# Altium schematic symbol library GPS-Module-Schlib.SchLib: 38 symbols (part 1 of 2)
Pins are listed as number, name and electrical type; pins without a type are passive.

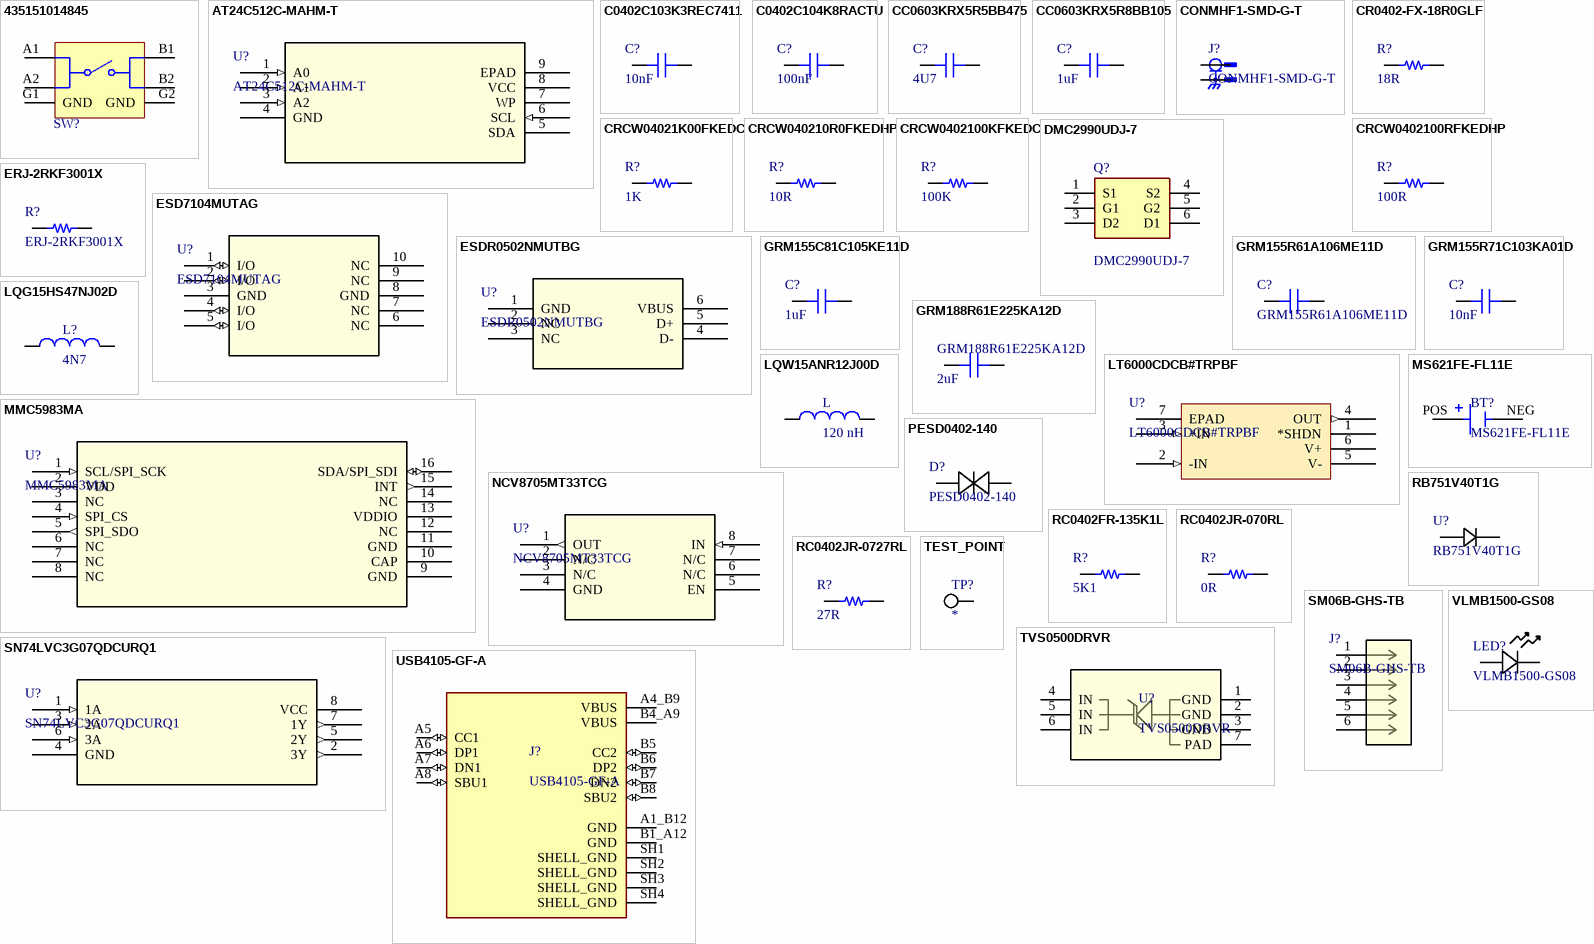
[diagram p0: symbols 435151014845 to VLMB1500-GS08]

## 435151014845
designator SW?  (value not drawn)
WS-TASV SMT Tact Switch with ground terminal, L3 x W2.6 x H1.4mm, 450g, SPST-NO, 12V, 50mA; Manufacturer: Wurth Elektronik; Washable: No; MPN: 435151014845; Category: Tact Switches; Match Code: WS-TASV; ComponentLink1Description: Website Link; ComponentLink1URL: https://www.we-online.com/redexpert/article/435151014845?ad; ComponentLink2Description: Datasheet Link; ComponentLink2URL: https://www.we-online.com/redexpert/spec/435151014845?ad; Mount: Surface Mount; Operating Temperature Max: 85°C; Operating Temperature Min: -40°C; Packaging: Tape and Reel; Length: 3mm; Width: 2.6mm; Height: 1.4mm; Circuit: SPST-NO; Contact Material: Stainless Steel; Contact Plating: Silver; Operation Force: 450g; Rated Current: 50mA; Rated Voltage (DC): 12V; Terminal Material: Copper Alloy; Terminal Plating: Silver
footprint 435151014845 (SMD Tact Switch, body 3x2.6mm)
pins: A1, A2, B1, B2, G1 GND, G2 GND

## AT24C512C-MAHM-T
designator U?
IC EEPROM 512KBIT I2C 8UDFN; Manufacturer_Name: Microchip; Copyright: Copyright (C) 2025 Ultra Librarian. All rights reserved.; MPN: AT24C512C-MAHM-T; RefDes: RefDes; Type: Type
footprint 8MA2_ATM_EEPROM
pins: 1 A0 (in), 2 A1 (in), 3 A2 (in), 4 GND (power), 5 SDA, 6 SCL (in), 7 WP, 8 VCC (power), 9 EPAD

## C0402C103K3REC7411
designator C?, comment 10nF
Multilayer Ceramic Capacitors MLCC - SMD/SMT 25V 0.01uF X7R 0402 10%; Manufacturer: KEMET; MPN: C0402C103K3REC7411; Supplier: DigiKey; Supplier Part Number: 399-C0402C103K3REC7411CT-ND; RoHS: Compliant; Category: Ceramic Capacitors; Stock: 41610; Pricing: 1=0.1, 10=0.056, 50=0.039, 100=0.0336, 500=0.02468, 1000=0.02195, 2500=0.01906, 5000=0.01733 (USD); Value: 10nF; China RoHS: Compliant; Dielectric Material: Ceramic; Height: 500µm; Length: 1mm; Lifecycle Status: Production; Max Operating Temperature: 125°C; Min Operating Temperature: -55°C; Mounting Technology: Surface Mount; Number of Terminals: 2; REACH SVHC: Yes; Voltage Rating (DC): 25V; Width: 500µm; ComponentLink1URL: https://datasheet.octopart.com:443/C0402C103K3REC7411-KEMET-datasheet-178568699.pdf?src-supplier=IHS; ComponentLink1Description: https://datasheet.octopart.com:443/C0402C103K3REC7411-KEMET-datasheet-178568699.pdf?src-supplier=IHS
footprint CAP 0402_1005 (Chip Capacitor, 2-Leads, Body 1.02x0.51mm, IPC Medium Density)
pins: 1, 2

## C0402C104K8RACTU
designator C?, comment 100nF
Capacitor, Multilayer, Ceramic, 10V, 10%, X7R, 15% Tc, 0.1Uf, Surface Mount, 0402; Manufacturer: KEMET; MPN: C0402C104K8RACTU; Dissipation Factor: 5%; Supplier: DigiKey; Supplier Part Number: 399-C0402C104K8RACTUCT-ND; RoHS: Compliant; Category: Ceramic Capacitors; Stock: 3340670; Pricing: 1=0.1, 10=0.029, 50=0.0198, 100=0.0168, 500=0.01192, 1000=0.01043, 2500=0.00886, 5000=0.00792 (USD); Value: 100nF; Case/Package: 0402; Case Code (Imperial): 0402; China RoHS: Compliant; Depth: 500µm; Dielectric: X7R; Dielectric Material: Ceramic; Height: 500µm; Lead Free: Lead Free; Lead Pitch: 300µm; Length: 1mm; Lifecycle Status: Production; Material: Ceramic; Max Operating Temperature: 125°C; Min Operating Temperature: -55°C; Mounting Technology: Surface Mount; Pins: 2; Number of Terminals: 2; Packaging: Cut Tape; Radiation Hardening: No; REACH SVHC: Yes; Schedule B: 8532240020, 8532240020|8532240020|8532240020|8532240020|8532240020; Termination: SMD/SMT; Thickness: 558.8µm; Tolerance: 10%; Voltage: 10V; Voltage Rating: 10V; Voltage Rating (DC): 10V; Width: 500µm; ComponentLink1URL: https://datasheet.octopart.com:443/C0402C104K8RACTU-KEMET-datasheet-178445679.pdf?src-supplier=IHS; ComponentLink1Description: https://datasheet.octopart.com:443/C0402C104K8RACTU-KEMET-datasheet-178445679.pdf?src-supplier=IHS; ComponentLink2URL: https://datasheet.octopart.com:443/C0402C104K8RACTU-KEMET-datasheet-137357759.pdf?src-supplier=Farnell; ComponentLink2Description: https://datasheet.octopart.com:443/C0402C104K8RACTU-KEMET-datasheet-137357759.pdf?src-supplier=Farnell; ComponentLink3URL: https://datasheet.octopart.com:443/C0402C104K8RACTU-KEMET-datasheet-149521634.pdf?src-supplier=Farnell; ComponentLink3Description: https://datasheet.octopart.com:443/C0402C104K8RACTU-KEMET-datasheet-149521634.pdf?src-supplier=Farnell; ComponentLink4URL: https://datasheet.octopart.com:443/C0402C104K8RACTU-Kemet-datasheet-12608295.pdf?src-supplier=Farnell; ComponentLink4Description: https://datasheet.octopart.com:443/C0402C104K8RACTU-Kemet-datasheet-12608295.pdf?src-supplier=Farnell; ComponentLink5URL: https://datasheet.octopart.com:443/C0402C104K8RACTU-Kemet-datasheet-11992184.pdf?src-supplier=Farnell; ComponentLink5Description: https://datasheet.octopart.com:443/C0402C104K8RACTU-Kemet-datasheet-11992184.pdf?src-supplier=Farnell; ComponentLink6URL: https://datasheet.octopart.com:443/C0402C104K8RACTU-Kemet-datasheet-10942409.pdf?src-supplier=Farnell; ComponentLink6Description: https://datasheet.octopart.com:443/C0402C104K8RACTU-Kemet-datasheet-10942409.pdf?src-supplier=Farnell; ComponentLink7URL: https://datasheet.octopart.com:443/C0402C104K8RACTU-Kemet-datasheet-10404442.pdf?src-supplier=Farnell; ComponentLink7Description: https://datasheet.octopart.com:443/C0402C104K8RACTU-Kemet-datasheet-10404442.pdf?src-supplier=Farnell; ComponentLink8URL: https://datasheet.octopart.com:443/C0402C104K8RACTU-KEMET-datasheet-101575473.pdf?src-supplier=Farnell; ComponentLink8Description: https://datasheet.octopart.com:443/C0402C104K8RACTU-KEMET-datasheet-101575473.pdf?src-supplier=Farnell; ComponentLink9URL: https://datasheet.octopart.com:443/C0402C104K8RACTU-Kemet-datasheet-41232427.pdf?src-supplier=Farnell; ComponentLink9Description: https://datasheet.octopart.com:443/C0402C104K8RACTU-Kemet-datasheet-41232427.pdf?src-supplier=Farnell; ComponentLink10URL: https://datasheet.octopart.com:443/C0402C104K8RACTU-Kemet-datasheet-32036385.pdf?src-supplier=Electro+Sonic; ComponentLink10Description: https://datasheet.octopart.com:443/C0402C104K8RACTU-Kemet-datasheet-32036385.pdf?src-supplier=Electro+Sonic; ComponentLink11URL: https://datasheet.octopart.com:443/C0402C104K8RACTU-KEMET-datasheet-157246124.pdf?src-supplier=Electro+Sonic; ComponentLink11Description: https://datasheet.octopart.com:443/C0402C104K8RACTU-KEMET-datasheet-157246124.pdf?src-supplier=Electro+Sonic; ComponentLink12URL: https://datasheet.octopart.com:443/C0402C104K8RACTU-Kemet-datasheet-27203261.pdf?src-supplier=Newark; ComponentLink12Description: https://datasheet.octopart.com:443/C0402C104K8RACTU-Kemet-datasheet-27203261.pdf?src-supplier=Newark; ComponentLink13URL: https://datasheet.octopart.com:443/C0402C104K8RACTU-KEMET-datasheet-176289274.pdf?src-supplier=Newark; ComponentLink13Description: https://datasheet.octopart.com:443/C0402C104K8RACTU-KEMET-datasheet-176289274.pdf?src-supplier=Newark; ComponentLink14URL: https://datasheet.octopart.com:443/C0402C104K8RACTU-Kemet-datasheet-5313890.pdf?src-supplier=element14; ComponentLink14Description: https://datasheet.octopart.com:443/C0402C104K8RACTU-Kemet-datasheet-5313890.pdf?src-supplier=element14; ComponentLink15URL: https://datasheet.octopart.com:443/C0402C104K8RACTU-Kemet-datasheet-8764837.pdf?src-supplier=element14; ComponentLink15Description: https://datasheet.octopart.com:443/C0402C104K8RACTU-Kemet-datasheet-8764837.pdf?src-supplier=element14; ComponentLink16URL: https://datasheet.octopart.com:443/C0402C104K8RACTU-Kemet-datasheet-8480123.pdf?src-supplier=element14; ComponentLink16Description: https://datasheet.octopart.com:443/C0402C104K8RACTU-Kemet-datasheet-8480123.pdf?src-supplier=element14; ComponentLink17URL: https://datasheet.octopart.com:443/C0402C104K8RACTU-Kemet-datasheet-5390537.pdf?src-supplier=element14; ComponentLink17Description: https://datasheet.octopart.com:443/C0402C104K8RACTU-Kemet-datasheet-5390537.pdf?src-supplier=element14; ComponentLink18URL: https://datasheet.octopart.com:443/C0402C104K8RACTU-Kemet-datasheet-5393970.pdf?src-supplier=element14; ComponentLink18Description: https://datasheet.octopart.com:443/C0402C104K8RACTU-Kemet-datasheet-5393970.pdf?src-supplier=element14; ComponentLink19URL: https://datasheet.octopart.com:443/C0402C104K8RACTU-Kemet-datasheet-8502025.pdf?src-supplier=element14; ComponentLink19Description: https://datasheet.octopart.com:443/C0402C104K8RACTU-Kemet-datasheet-8502025.pdf?src-supplier=element14; ComponentLink20URL: https://datasheet.octopart.com:443/C0402C104K8RACTU-Kemet-datasheet-7541751.pdf?src-supplier=element14; ComponentLink20Description: https://datasheet.octopart.com:443/C0402C104K8RACTU-Kemet-datasheet-7541751.pdf?src-supplier=element14; ComponentLink21URL: https://datasheet.octopart.com:443/C0402C104K8RACTU-Kemet-datasheet-161801.pdf?src-supplier=element14; ComponentLink21Description: https://datasheet.octopart.com:443/C0402C104K8RACTU-Kemet-datasheet-161801.pdf?src-supplier=element14; ComponentLink22URL: https://datasheet.octopart.com:443/C0402C104K8RACTU-KEMET-datasheet-164512540.pdf?src-supplier=TME; ComponentLink22Description: https://datasheet.octopart.com:443/C0402C104K8RACTU-KEMET-datasheet-164512540.pdf?src-supplier=TME; ComponentLink23URL: https://datasheet.octopart.com:443/C0402C104K8RACTU-KEMET-datasheet-98355703.pdf?src-supplier=TME; ComponentLink23Description: https://datasheet.octopart.com:443/C0402C104K8RACTU-KEMET-datasheet-98355703.pdf?src-supplier=TME; ComponentLink24URL: https://datasheet.octopart.com:443/C0402C104K8RACTU-KEMET-datasheet-68331906.pdf?src-supplier=TME; ComponentLink24Description: https://datasheet.octopart.com:443/C0402C104K8RACTU-KEMET-datasheet-68331906.pdf?src-supplier=TME; ComponentLink25URL: https://datasheet.octopart.com:443/C0402C104K8RACTU-KEMET-datasheet-110724412.pdf?src-supplier=RS+(Formerly+Allied+Electronics); ComponentLink25Description: https://datasheet.octopart.com:443/C0402C104K8RACTU-KEMET-datasheet-110724412.pdf?src-supplier=RS+(Formerly+Allied+Electronics); ComponentLink26URL: https://datasheet.octopart.com:443/C0402C104K8RACTU-Kemet-datasheet-464.pdf?src-supplier=RS+(Formerly+Allied+Electronics); ComponentLink26Description: https://datasheet.octopart.com:443/C0402C104K8RACTU-Kemet-datasheet-464.pdf?src-supplier=RS+(Formerly+Allied+Electronics); ComponentLink27URL: https://datasheet.octopart.com/C0402C104K8RACTU-KEMET-datasheet-84169754.pdf; ComponentLink27Description: https://datasheet.octopart.com/C0402C104K8RACTU-KEMET-datasheet-84169754.pdf; ComponentLink28URL: https://datasheet.octopart.com:443/C0402C104K8RACTU-Kemet-datasheet-11890967.pdf?src-supplier=Arrow+Electronics; ComponentLink28Description: https://datasheet.octopart.com:443/C0402C104K8RACTU-Kemet-datasheet-11890967.pdf?src-supplier=Arrow+Electronics; ComponentLink29URL: https://datasheet.octopart.com:443/C0402C104K8RAC-TU-Kemet-datasheet-7553948.pdf?src-supplier=Jameco; ComponentLink29Description: https://datasheet.octopart.com:443/C0402C104K8RAC-TU-Kemet-datasheet-7553948.pdf?src-supplier=Jameco
footprint CAP 0402_1005 (Chip Capacitor, 2-Leads, Body 1.02x0.51mm, IPC Medium Density)
pins: 1, 2

## CC0603KRX5R5BB475
designator C?, comment 4U7
Multilayer Ceramic Capacitor, CC Series, 4.7 - F, - 10%, X5R, 6.3 V, 0603 [1608 Metric]; Manufacturer: Yageo Group; MPN: CC0603KRX5R5BB475; Value: 4.7µF; Voltage Rating: 6.3V; Supplier: DigiKey; Supplier Part Number: 311-1521-1-ND; RoHS: Compliant; Category: Ceramic Capacitors; Stock: 76894; Pricing: 1=0.2, 10=0.114, 50=0.0814, 100=0.0714, 500=0.0545, 1000=0.04931 (USD); Case/Package: 0603; Case Code (Imperial): 0603; Case Code (Metric): 1608; China RoHS: Compliant; Composition: Ceramic; Depth: 800µm; Dielectric: X5R; Dielectric Material: Ceramic; Dissipation Factor: 10%; Halogen Free: Halogen Free; Height: 800µm; Lead Free: Lead Free; Length: 1.6mm; Lifecycle Status: Production; Material: Ceramic; Max Operating Temperature: 85°C; Min Operating Temperature: -55°C; Mounting Technology: Surface Mount; Pins: 2; Number of Terminals: 2; Radiation Hardening: No; REACH SVHC: Yes; Schedule B: 8532240020, 8532240020|8532240020, 8532240020|8532240020|8532240020, 8532240020|8532240020|8532240020|8532240020; Termination: SMD/SMT; Thickness: 889µm; Tolerance: 10%; Voltage Rating (AC): 6.3V; Voltage Rating (DC): 6.3V; Width: 800µm; ComponentLink1URL: https://datasheet.octopart.com:443/CC0603KRX5R5BB475-Yageo-datasheet-170350636.pdf?src-supplier=IHS; ComponentLink1Description: https://datasheet.octopart.com:443/CC0603KRX5R5BB475-Yageo-datasheet-170350636.pdf?src-supplier=IHS; ComponentLink2URL: https://datasheet.octopart.com:443/CC0603KRX5R5BB475-Yageo-datasheet-82288757.pdf?src-supplier=Upverter; ComponentLink2Description: https://datasheet.octopart.com:443/CC0603KRX5R5BB475-Yageo-datasheet-82288757.pdf?src-supplier=Upverter; ComponentLink3URL: https://datasheet.octopart.com:443/CC0603KRX5R5BB475-Yageo-datasheet-78855687.pdf?src-supplier=Upverter; ComponentLink3Description: https://datasheet.octopart.com:443/CC0603KRX5R5BB475-Yageo-datasheet-78855687.pdf?src-supplier=Upverter; ComponentLink4URL: https://datasheet.octopart.com:443/CC0603KRX5R5BB475-Yageo-datasheet-42079887.pdf?src-supplier=Upverter; ComponentLink4Description: https://datasheet.octopart.com:443/CC0603KRX5R5BB475-Yageo-datasheet-42079887.pdf?src-supplier=Upverter; ComponentLink5URL: https://datasheet.octopart.com:443/CC0603KRX5R5BB475-Yageo-datasheet-184398204.pdf?src-supplier=Newark; ComponentLink5Description: https://datasheet.octopart.com:443/CC0603KRX5R5BB475-Yageo-datasheet-184398204.pdf?src-supplier=Newark; ComponentLink6URL: https://datasheet.octopart.com:443/CC0603KRX5R5BB475-Yageo-datasheet-181968509.pdf?src-supplier=Newark; ComponentLink6Description: https://datasheet.octopart.com:443/CC0603KRX5R5BB475-Yageo-datasheet-181968509.pdf?src-supplier=Newark; ComponentLink7URL: https://datasheet.octopart.com:443/CC0603KRX5R5BB475-Yageo-datasheet-158238148.pdf?src-supplier=Newark; ComponentLink7Description: https://datasheet.octopart.com:443/CC0603KRX5R5BB475-Yageo-datasheet-158238148.pdf?src-supplier=Newark; ComponentLink8URL: https://datasheet.octopart.com:443/CC0603KRX5R5BB475-Yageo-datasheet-8359971.pdf?src-supplier=Newark; ComponentLink8Description: https://datasheet.octopart.com:443/CC0603KRX5R5BB475-Yageo-datasheet-8359971.pdf?src-supplier=Newark; ComponentLink9URL: https://datasheet.octopart.com:443/CC0603KRX5R5BB475-Yageo-datasheet-8324442.pdf?src-supplier=element14+APAC; ComponentLink9Description: https://datasheet.octopart.com:443/CC0603KRX5R5BB475-Yageo-datasheet-8324442.pdf?src-supplier=element14+APAC; ComponentLink10URL: https://datasheet.octopart.com:443/CC0603KRX5R5BB475-Yageo-datasheet-62067349.pdf?src-supplier=element14+APAC; ComponentLink10Description: https://datasheet.octopart.com:443/CC0603KRX5R5BB475-Yageo-datasheet-62067349.pdf?src-supplier=element14+APAC; ComponentLink11URL: https://datasheet.octopart.com/CC0603KRX5R5BB475-Yageo-datasheet-86397281.pdf; ComponentLink11Description: https://datasheet.octopart.com/CC0603KRX5R5BB475-Yageo-datasheet-86397281.pdf; ComponentLink12URL: https://datasheet.octopart.com:443/CC0603KRX5R5BB475-Yageo-datasheet-10911834.pdf?src-supplier=Farnell; ComponentLink12Description: https://datasheet.octopart.com:443/CC0603KRX5R5BB475-Yageo-datasheet-10911834.pdf?src-supplier=Farnell; ComponentLink13URL: https://datasheet.octopart.com:443/CC0603KRX5R5BB475-Yageo-Group-datasheet-184398209.pdf?src-supplier=Farnell; ComponentLink13Description: https://datasheet.octopart.com:443/CC0603KRX5R5BB475-Yageo-Group-datasheet-184398209.pdf?src-supplier=Farnell; ComponentLink14URL: https://datasheet.octopart.com:443/CC0603KRX5R5BB475-Yageo-datasheet-500777.pdf?src-supplier=Farnell; ComponentLink14Description: https://datasheet.octopart.com:443/CC0603KRX5R5BB475-Yageo-datasheet-500777.pdf?src-supplier=Farnell; ComponentLink15URL: https://datasheet.octopart.com:443/CC0603KRX5R5BB475-Yageo-datasheet-519481.pdf?src-supplier=element14; ComponentLink15Description: https://datasheet.octopart.com:443/CC0603KRX5R5BB475-Yageo-datasheet-519481.pdf?src-supplier=element14; ComponentLink16URL: https://datasheet.octopart.com:443/CC0603KRX5R5BB475-Yageo-datasheet-8701639.pdf?src-supplier=element14; ComponentLink16Description: https://datasheet.octopart.com:443/CC0603KRX5R5BB475-Yageo-datasheet-8701639.pdf?src-supplier=element14; ComponentLink17URL: https://datasheet.octopart.com:443/CC0603KRX5R5BB475-Yageo-datasheet-175963154.pdf?src-supplier=JRH+Electronics; ComponentLink17Description: https://datasheet.octopart.com:443/CC0603KRX5R5BB475-Yageo-datasheet-175963154.pdf?src-supplier=JRH+Electronics; ComponentLink18URL: https://datasheet.octopart.com:443/CC0603KRX5R5BB475-Yageo-datasheet-149070021.pdf?src-supplier=TME; ComponentLink18Description: https://datasheet.octopart.com:443/CC0603KRX5R5BB475-Yageo-datasheet-149070021.pdf?src-supplier=TME; ComponentLink19URL: https://datasheet.octopart.com:443/CC0603KRX5R5BB475-Yageo-Group-datasheet-145016144.pdf?src-supplier=ODG+(Origin+Data+Global); ComponentLink19Description: https://datasheet.octopart.com:443/CC0603KRX5R5BB475-Yageo-Group-datasheet-145016144.pdf?src-supplier=ODG+(Origin+Data+Global); ComponentLink20URL: https://datasheet.octopart.com:443/CC0603KRX5R5BB475-Yageo-datasheet-137875056.pdf?src-supplier=Future+Electronics; ComponentLink20Description: https://datasheet.octopart.com:443/CC0603KRX5R5BB475-Yageo-datasheet-137875056.pdf?src-supplier=Future+Electronics; ComponentLink21URL: https://datasheet.octopart.com:443/CC0603KRX5R5BB475-Yageo-datasheet-137700082.pdf?src-supplier=Future+Electronics; ComponentLink21Description: https://datasheet.octopart.com:443/CC0603KRX5R5BB475-Yageo-datasheet-137700082.pdf?src-supplier=Future+Electronics; ComponentLink22URL: https://datasheet.octopart.com:443/CC0603KRX5R5BB475-Yageo-datasheet-137700085.pdf?src-supplier=Future+Electronics; ComponentLink22Description: https://datasheet.octopart.com:443/CC0603KRX5R5BB475-Yageo-datasheet-137700085.pdf?src-supplier=Future+Electronics; ComponentLink23URL: https://datasheet.octopart.com:443/CC0603KRX5R5BB475-Yageo-datasheet-59875459.pdf?src-supplier=Future+Electronics; ComponentLink23Description: https://datasheet.octopart.com:443/CC0603KRX5R5BB475-Yageo-datasheet-59875459.pdf?src-supplier=Future+Electronics; ComponentLink24URL: https://datasheet.octopart.com:443/CC0603KRX5R5BB475-Yageo-datasheet-27626583.pdf?src-supplier=Future+Electronics; ComponentLink24Description: https://datasheet.octopart.com:443/CC0603KRX5R5BB475-Yageo-datasheet-27626583.pdf?src-supplier=Future+Electronics; ComponentLink25URL: https://datasheet.octopart.com:443/CC0603KRX5R5BB475-Yageo-datasheet-15895757.pdf?src-supplier=Future+Electronics; ComponentLink25Description: https://datasheet.octopart.com:443/CC0603KRX5R5BB475-Yageo-datasheet-15895757.pdf?src-supplier=Future+Electronics; ComponentLink26URL: https://datasheet.octopart.com:443/CC0603KRX5R5BB475-Yageo-datasheet-14389981.pdf?src-supplier=Future+Electronics; ComponentLink26Description: https://datasheet.octopart.com:443/CC0603KRX5R5BB475-Yageo-datasheet-14389981.pdf?src-supplier=Future+Electronics; ComponentLink27URL: http://sigma.octopart.com:80/rohs_statement/Yageo-company-2.pdf?src-supplier=Compliance+Statements; ComponentLink27Description: http://sigma.octopart.com:80/rohs_statement/Yageo-company-2.pdf?src-supplier=Compliance+Statements; ComponentLink28URL: http://sigma.octopart.com:80/conflict_mineral_statement/Yageo-company-3.pdf?src-supplier=Compliance+Statements; ComponentLink28Description: http://sigma.octopart.com:80/conflict_mineral_statement/Yageo-company-3.pdf?src-supplier=Compliance+Statements
footprint CAP 0603_1608 (Chip Capacitor, 2-Leads, Body 1.60x0.80mm, IPC Medium Density)
pins: 1, 2

## CC0603KRX5R8BB105
designator C?, comment 1uF
Multilayer Ceramic Capacitors MLCC – SMD/SMT; YAGEO; CC0603KRX5R8BB105; 1 µF; 0603; 25 V; 25 V; Manufacturer: Yageo Group; Value: 1µF; Dielectric: X5R; Tolerance: 10%; Voltage Rating: 25V; Supplier: DigiKey; Supplier Part Number: 311-1445-1-ND; MPN: CC0603KRX5R8BB105; RoHS: Compliant; Category: Ceramic Capacitors; Stock: 1411799; Pricing: 1=0.1, 10=0.057, 50=0.0392, 100=0.0339, 500=0.02488, 1000=0.02004 (USD); Case/Package: 0603; Case Code (Imperial): 0603; Case Code (Metric): 1608; China RoHS: Compliant; Depth: 800µm; Dielectric Material: Ceramic; Halogen Free: Halogen Free; Height: 800µm; Lead Free: Lead Free; Length: 1.6mm; Lifecycle Status: Production; Material: Ceramic; Max Operating Temperature: 85°C; Min Operating Temperature: -55°C; Mounting Technology: Surface Mount; Pins: 2; Number of Terminals: 2; Radiation Hardening: No; REACH SVHC: Yes; Schedule B: 8532240020, 8532240020|8532240020, 8532240020|8532240020|8532240020, 8532240020|8532240020|8532240020|8532240020; Termination: SMD/SMT; Thickness: 889µm; Voltage Rating (DC): 25V; Width: 800µm; ComponentLink1URL: https://datasheet.octopart.com:443/CC0603KRX5R8BB105-Yageo-datasheet-170350636.pdf?src-supplier=IHS; ComponentLink1Description: https://datasheet.octopart.com:443/CC0603KRX5R8BB105-Yageo-datasheet-170350636.pdf?src-supplier=IHS; ComponentLink2URL: https://datasheet.octopart.com:443/CC0603KRX5R8BB105-Yageo-datasheet-82288757.pdf?src-supplier=Upverter; ComponentLink2Description: https://datasheet.octopart.com:443/CC0603KRX5R8BB105-Yageo-datasheet-82288757.pdf?src-supplier=Upverter; ComponentLink3URL: https://datasheet.octopart.com:443/CC0603KRX5R8BB105-Yageo-datasheet-10911834.pdf?src-supplier=element14+APAC; ComponentLink3Description: https://datasheet.octopart.com:443/CC0603KRX5R8BB105-Yageo-datasheet-10911834.pdf?src-supplier=element14+APAC; ComponentLink4URL: https://datasheet.octopart.com:443/CC0603KRX5R8BB105-Yageo-datasheet-8324442.pdf?src-supplier=element14+APAC; ComponentLink4Description: https://datasheet.octopart.com:443/CC0603KRX5R8BB105-Yageo-datasheet-8324442.pdf?src-supplier=element14+APAC; ComponentLink5URL: https://datasheet.octopart.com:443/CC0603KRX5R8BB105-Yageo-datasheet-62067349.pdf?src-supplier=element14+APAC; ComponentLink5Description: https://datasheet.octopart.com:443/CC0603KRX5R8BB105-Yageo-datasheet-62067349.pdf?src-supplier=element14+APAC; ComponentLink6URL: https://datasheet.octopart.com:443/CC0603KRX5R8BB105-Yageo-datasheet-140260304.pdf?src-supplier=Farnell; ComponentLink6Description: https://datasheet.octopart.com:443/CC0603KRX5R8BB105-Yageo-datasheet-140260304.pdf?src-supplier=Farnell; ComponentLink7URL: https://datasheet.octopart.com:443/CC0603KRX5R8BB105-Yageo-datasheet-181968541.pdf?src-supplier=Farnell; ComponentLink7Description: https://datasheet.octopart.com:443/CC0603KRX5R8BB105-Yageo-datasheet-181968541.pdf?src-supplier=Farnell; ComponentLink8URL: https://datasheet.octopart.com:443/CC0603KRX5R8BB105-Yageo-datasheet-181968534.pdf?src-supplier=Farnell; ComponentLink8Description: https://datasheet.octopart.com:443/CC0603KRX5R8BB105-Yageo-datasheet-181968534.pdf?src-supplier=Farnell; ComponentLink9URL: https://datasheet.octopart.com/CC0603KRX5R8BB105-Yageo-datasheet-86397281.pdf; ComponentLink9Description: https://datasheet.octopart.com/CC0603KRX5R8BB105-Yageo-datasheet-86397281.pdf; ComponentLink10URL: https://datasheet.octopart.com:443/CC0603KRX5R8BB105-Yageo-datasheet-158238148.pdf?src-supplier=Newark; ComponentLink10Description: https://datasheet.octopart.com:443/CC0603KRX5R8BB105-Yageo-datasheet-158238148.pdf?src-supplier=Newark; ComponentLink11URL: https://datasheet.octopart.com:443/CC0603KRX5R8BB105-Yageo-datasheet-149070021.pdf?src-supplier=TME; ComponentLink11Description: https://datasheet.octopart.com:443/CC0603KRX5R8BB105-Yageo-datasheet-149070021.pdf?src-supplier=TME; ComponentLink12URL: https://datasheet.octopart.com:443/CC0603KRX5R8BB105-Yageo-Group-datasheet-145016144.pdf?src-supplier=ODG+(Origin+Data+Global); ComponentLink12Description: https://datasheet.octopart.com:443/CC0603KRX5R8BB105-Yageo-Group-datasheet-145016144.pdf?src-supplier=ODG+(Origin+Data+Global); ComponentLink13URL: https://datasheet.octopart.com:443/CC0603KRX5R8BB105-Yageo-datasheet-137875056.pdf?src-supplier=Future+Electronics; ComponentLink13Description: https://datasheet.octopart.com:443/CC0603KRX5R8BB105-Yageo-datasheet-137875056.pdf?src-supplier=Future+Electronics; ComponentLink14URL: https://datasheet.octopart.com:443/CC0603KRX5R8BB105-Yageo-datasheet-137700082.pdf?src-supplier=Future+Electronics; ComponentLink14Description: https://datasheet.octopart.com:443/CC0603KRX5R8BB105-Yageo-datasheet-137700082.pdf?src-supplier=Future+Electronics; ComponentLink15URL: https://datasheet.octopart.com:443/CC0603KRX5R8BB105-Yageo-datasheet-137700085.pdf?src-supplier=Future+Electronics; ComponentLink15Description: https://datasheet.octopart.com:443/CC0603KRX5R8BB105-Yageo-datasheet-137700085.pdf?src-supplier=Future+Electronics; ComponentLink16URL: https://datasheet.octopart.com:443/CC0603KRX5R8BB105-Yageo-datasheet-59875459.pdf?src-supplier=Future+Electronics; ComponentLink16Description: https://datasheet.octopart.com:443/CC0603KRX5R8BB105-Yageo-datasheet-59875459.pdf?src-supplier=Future+Electronics; ComponentLink17URL: https://datasheet.octopart.com:443/CC0603KRX5R8BB105-Yageo-datasheet-14389981.pdf?src-supplier=Future+Electronics; ComponentLink17Description: https://datasheet.octopart.com:443/CC0603KRX5R8BB105-Yageo-datasheet-14389981.pdf?src-supplier=Future+Electronics; ComponentLink18URL: https://datasheet.octopart.com:443/CC0603KRX5R8BB105-Yageo-datasheet-8701639.pdf?src-supplier=element14; ComponentLink18Description: https://datasheet.octopart.com:443/CC0603KRX5R8BB105-Yageo-datasheet-8701639.pdf?src-supplier=element14; ComponentLink19URL: https://datasheet.octopart.com:443/CC0603KRX5R8BB105-Yageo-datasheet-519481.pdf?src-supplier=element14; ComponentLink19Description: https://datasheet.octopart.com:443/CC0603KRX5R8BB105-Yageo-datasheet-519481.pdf?src-supplier=element14; ComponentLink20URL: https://datasheet.octopart.com:443/CC0603KRX5R8BB105-Yageo-datasheet-68071816.pdf?src-supplier=Megastar; ComponentLink20Description: https://datasheet.octopart.com:443/CC0603KRX5R8BB105-Yageo-datasheet-68071816.pdf?src-supplier=Megastar; ComponentLink21URL: http://sigma.octopart.com:80/conflict_mineral_statement/Yageo-company-3.pdf?src-supplier=Compliance+Statements; ComponentLink21Description: http://sigma.octopart.com:80/conflict_mineral_statement/Yageo-company-3.pdf?src-supplier=Compliance+Statements; ComponentLink22URL: http://sigma.octopart.com:80/rohs_statement/Yageo-company-2.pdf?src-supplier=Compliance+Statements; ComponentLink22Description: http://sigma.octopart.com:80/rohs_statement/Yageo-company-2.pdf?src-supplier=Compliance+Statements
footprint CAP 0603_1608 (Chip Capacitor, 2-Leads, Body 1.60x0.80mm, IPC Medium Density)
pins: 1, 2

## CONMHF1-SMD-G-T
designator J?
U.FL/MHF1 Jack 50 Ohm PCB Surface Mount; MF: TE Connectivity; SnapEDA_Link: https://www.snapeda.com/parts/CONMHF1-SMD-G-T/TE+Connectivity/view-part/?ref=snap; Package: None; Value: *; MPN: CONMHF1-SMD-G-T; Check_prices: https://www.snapeda.com/parts/CONMHF1-SMD-G-T/TE+Connectivity/view-part/?ref=eda
footprint LINX_CONMHF1-SMD-G-T
pins: 1, S1 2, S2 2, S3 2

## CR0402-FX-18R0GLF
designator R?, comment 18R
Res Thick Film 0402 18 Ohm 1% 0.063W(1/16W) ±100ppm/C Pad SMD T/R; Manufacturer: Bourns; MPN: CR0402-FX-18R0GLF; Power Dissipation: 62.5mW; Value: 18Ω; Temperature Coefficient: 100ppm/°C; Voltage Rating: 50V; Supplier: DigiKey; Supplier Part Number: CR0402-FX-18R0GLFCT-ND; RoHS: Compliant; Category: Chip SMD Resistors; Stock: 441130; Pricing: 1=0.1, 10=0.016, 25=0.0112, 50=0.0086, 100=0.0069, 250=0.00516, 500=0.00422, 1000=0.00349, 5000=0.00259 (USD); Case/Package: 0402; Case Code (Imperial): 0402; Case Code (Metric): 1005; China RoHS: Non-Compliant; Composition: Thick Film; Contact Plating: Tin; Depth: 500µm; Height: 320µm; Lifecycle Status: Production; Max Operating Temperature: 155°C; Military Standard: Not; Min Operating Temperature: -55°C; Mounting Technology: Surface Mount; Number of Terminals: 2; Power Rating: 62.5mW; Radiation Hardening: No; REACH SVHC: Yes; Schedule B: 8533210045, 8533210045|8533210045|8533210045|8533210045|8533210045; Termination: SMD/SMT; Tolerance: 1%; Width: 500µm; Working Voltage: 50V; ComponentLink1URL: https://datasheet.octopart.com:443/CR0402-FX-18R0GLF-Bourns-datasheet-159578630.pdf?src-supplier=IHS; ComponentLink1Description: https://datasheet.octopart.com:443/CR0402-FX-18R0GLF-Bourns-datasheet-159578630.pdf?src-supplier=IHS; ComponentLink2URL: https://datasheet.octopart.com:443/CR0402-FX-18R0GLF-Bourns-datasheet-181955239.pdf?src-supplier=IHS; ComponentLink2Description: https://datasheet.octopart.com:443/CR0402-FX-18R0GLF-Bourns-datasheet-181955239.pdf?src-supplier=IHS; ComponentLink3URL: https://datasheet.octopart.com:443/CR0402-FX-18R0GLF-Bourns-datasheet-154729664.pdf?src-supplier=Electro+Sonic; ComponentLink3Description: https://datasheet.octopart.com:443/CR0402-FX-18R0GLF-Bourns-datasheet-154729664.pdf?src-supplier=Electro+Sonic; ComponentLink4URL: https://datasheet.octopart.com/CR0402-FX-18R0GLF-Bourns-datasheet-8723995.pdf; ComponentLink4Description: https://datasheet.octopart.com/CR0402-FX-18R0GLF-Bourns-datasheet-8723995.pdf; ComponentLink5URL: https://datasheet.octopart.com:443/CR0402-FX-18R0GLF-Bourns-datasheet-140567134.pdf?src-supplier=Arrow.cn; ComponentLink5Description: https://datasheet.octopart.com:443/CR0402-FX-18R0GLF-Bourns-datasheet-140567134.pdf?src-supplier=Arrow.cn; ComponentLink6URL: http://sigma.octopart.com:80/conflict_mineral_statement/Bourns-company-36.pdf?src-supplier=Compliance+Statements; ComponentLink6Description: http://sigma.octopart.com:80/conflict_mineral_statement/Bourns-company-36.pdf?src-supplier=Compliance+Statements
footprint RES 0402_1005 (Chip Resistor, 2-Leads, Body 1.0x0.5mm, IPC Medium Density)
pins: 1, 2

## CRCW04021K00FKEDC
designator R?, comment 1K
Res Thick Film 0402 1K Ohm 1% 0.063W(1/16W) ±100ppm/C Pad SMD T/R; Manufacturer: Vishay; MPN: CRCW04021K00FKEDC; Power Dissipation: 63mW; Value: 1kΩ; Temperature Coefficient: 100ppm/°C; Voltage Rating: 50V; Supplier: DigiKey; Supplier Part Number: 541-3961-1-ND; RoHS: Compliant; Category: Chip SMD Resistors; Stock: 1938339; Pricing: 1=0.1, 10=0.028, 25=0.0208, 50=0.0168, 100=0.0138, 250=0.01072, 500=0.009, 1000=0.00766, 5000=0.00546 (USD); Case/Package: 0402; China RoHS: Non-Compliant; Composition: Thick Film; Contact Plating: Tin; Height: 300µm; Lead Free: Lead Free; Length: 1mm; Lifecycle Status: Production; Max Operating Temperature: 155°C; Min Operating Temperature: -55°C; Mounting Technology: Surface Mount; Number of Terminals: 2; Power Rating: 63mW; REACH SVHC: Yes; Schedule B: 8533210045, 8533210045|8533210045|8533210045|8533210045|8533210045; Termination: Wraparound; Tolerance: 1%; Width: 500µm; Working Voltage: 50V; ComponentLink1URL: https://datasheet.octopart.com:443/CRCW04021K00FKEDC-Vishay-datasheet-102570912.pdf?src-supplier=Upverter; ComponentLink1Description: https://datasheet.octopart.com:443/CRCW04021K00FKEDC-Vishay-datasheet-102570912.pdf?src-supplier=Upverter; ComponentLink2URL: https://datasheet.octopart.com:443/CRCW04021K00FKEDC-Vishay-datasheet-175423585.pdf?src-supplier=IHS; ComponentLink2Description: https://datasheet.octopart.com:443/CRCW04021K00FKEDC-Vishay-datasheet-175423585.pdf?src-supplier=IHS; ComponentLink3URL: https://datasheet.octopart.com:443/CRCW04021K00FKEDC-Vishay-datasheet-100063072.pdf?src-supplier=Future+Electronics; ComponentLink3Description: https://datasheet.octopart.com:443/CRCW04021K00FKEDC-Vishay-datasheet-100063072.pdf?src-supplier=Future+Electronics; ComponentLink4URL: https://datasheet.octopart.com:443/CRCW04021K00FKEDC-Vishay-datasheet-62316122.pdf?src-supplier=Future+Electronics; ComponentLink4Description: https://datasheet.octopart.com:443/CRCW04021K00FKEDC-Vishay-datasheet-62316122.pdf?src-supplier=Future+Electronics; ComponentLink5URL: http://sigma.octopart.com:80/rohs_statement/Vishay-company-15.pdf?src-supplier=Compliance+Statements; ComponentLink5Description: http://sigma.octopart.com:80/rohs_statement/Vishay-company-15.pdf?src-supplier=Compliance+Statements
footprint RES 0402_1005 (Chip Resistor, 2-Leads, Body 1.0x0.5mm, IPC Medium Density)
pins: 1, 2

## CRCW040210R0FKEDHP
designator R?, comment 10R
Res Thick Film 0402 10 Ohm 1% 0.2W ±100ppm/°C Molded SMD SMD Paper T/R; Manufacturer: Vishay; MPN: CRCW040210R0FKEDHP; Manufacturer Package Identifier: CRCW0402-HPe3; Power Dissipation: 200mW; Value: 10Ω; Voltage Rating: 50V; Supplier: DigiKey; Supplier Part Number: 541-10.0YCT-ND; RoHS: Compliant; Category: Chip SMD Resistors; Stock: 208712; Pricing: 1=0.11, 10=0.054, 25=0.0412, 50=0.034, 100=0.0286, 250=0.02312, 500=0.02002, 1000=0.01755, 5000=0.01363 (USD); Case/Package: 0402; Case Code (Imperial): 0402; Case Code (Metric): 1005; China RoHS: Non-Compliant; Composition: Thick Film; Contact Plating: Tin; Depth: 500µm; Height: 300µm; Lead Free: Lead Free; Length: 1mm; Lifecycle Status: Production; Max Operating Temperature: 155°C; Military Standard: Not; Min Operating Temperature: -55°C; Mounting Technology: Surface Mount; Number of Terminals: 2; Packaging: Cut Tape; Power Rating: 200mW; Radiation Hardening: No; REACH SVHC: Yes; Schedule B: 8533210045, 8533210045|8533210045|8533210045|8533210045|8533210045|8533210045|8533210045|8533210045|8533210045|8533210045|8533210045|8533210045|8533210045|8533210045|8533210045|8533210045|8533210045|8533210045|8533210045|8533210045|8533210045|8533210045|8533210045|85; Temperature Coefficient: 100ppm/°C; Termination: SMD/SMT; Tolerance: 1%; Voltage Rating (DC): 50V; Weight: 652.039032µg; Width: 500µm; Working Voltage: 50V; ComponentLink1URL: https://datasheet.octopart.com/CRCW040210R0FKEDHP-Vishay-datasheet-83567917.pdf; ComponentLink1Description: https://datasheet.octopart.com/CRCW040210R0FKEDHP-Vishay-datasheet-83567917.pdf; ComponentLink2URL: https://datasheet.octopart.com:443/CRCW040210R0FKEDHP-Vishay-datasheet-87136057.pdf?src-supplier=element14+APAC; ComponentLink2Description: https://datasheet.octopart.com:443/CRCW040210R0FKEDHP-Vishay-datasheet-87136057.pdf?src-supplier=element14+APAC; ComponentLink3URL: https://datasheet.octopart.com:443/CRCW040210R0FKEDHP-Vishay-datasheet-78776210.pdf?src-supplier=element14+APAC; ComponentLink3Description: https://datasheet.octopart.com:443/CRCW040210R0FKEDHP-Vishay-datasheet-78776210.pdf?src-supplier=element14+APAC; ComponentLink4URL: https://datasheet.octopart.com:443/CRCW040210R0FKEDHP-Vishay-datasheet-62317933.pdf?src-supplier=element14+APAC; ComponentLink4Description: https://datasheet.octopart.com:443/CRCW040210R0FKEDHP-Vishay-datasheet-62317933.pdf?src-supplier=element14+APAC; ComponentLink5URL: https://datasheet.octopart.com:443/CRCW040210R0FKEDHP-Vishay-datasheet-37143532.pdf?src-supplier=element14+APAC; ComponentLink5Description: https://datasheet.octopart.com:443/CRCW040210R0FKEDHP-Vishay-datasheet-37143532.pdf?src-supplier=element14+APAC; ComponentLink6URL: https://datasheet.octopart.com:443/CRCW040210R0FKEDHP-Vishay-datasheet-66581887.pdf?src-supplier=element14+APAC; ComponentLink6Description: https://datasheet.octopart.com:443/CRCW040210R0FKEDHP-Vishay-datasheet-66581887.pdf?src-supplier=element14+APAC; ComponentLink7URL: https://datasheet.octopart.com:443/CRCW040210R0FKEDHP-Vishay-datasheet-62316122.pdf?src-supplier=Future+Electronics; ComponentLink7Description: https://datasheet.octopart.com:443/CRCW040210R0FKEDHP-Vishay-datasheet-62316122.pdf?src-supplier=Future+Electronics; ComponentLink8URL: https://datasheet.octopart.com:443/CRCW040210R0FKEDHP-Vishay-datasheet-13148866.pdf?src-supplier=Future+Electronics; ComponentLink8Description: https://datasheet.octopart.com:443/CRCW040210R0FKEDHP-Vishay-datasheet-13148866.pdf?src-supplier=Future+Electronics; ComponentLink9URL: https://datasheet.octopart.com:443/CRCW040210R0FKEDHP-Vishay-datasheet-13131392.pdf?src-supplier=Future+Electronics; ComponentLink9Description: https://datasheet.octopart.com:443/CRCW040210R0FKEDHP-Vishay-datasheet-13131392.pdf?src-supplier=Future+Electronics; ComponentLink10URL: https://datasheet.octopart.com:443/CRCW040210R0FKEDHP-Vishay-datasheet-12593106.pdf?src-supplier=Future+Electronics; ComponentLink10Description: https://datasheet.octopart.com:443/CRCW040210R0FKEDHP-Vishay-datasheet-12593106.pdf?src-supplier=Future+Electronics; ComponentLink11URL: https://datasheet.octopart.com:443/CRCW040210R0FKEDHP-Vishay-datasheet-12544674.pdf?src-supplier=Future+Electronics; ComponentLink11Description: https://datasheet.octopart.com:443/CRCW040210R0FKEDHP-Vishay-datasheet-12544674.pdf?src-supplier=Future+Electronics; ComponentLink12URL: https://datasheet.octopart.com:443/CRCW040210R0FKEDHP-Vishay-datasheet-12531795.pdf?src-supplier=Future+Electronics; ComponentLink12Description: https://datasheet.octopart.com:443/CRCW040210R0FKEDHP-Vishay-datasheet-12531795.pdf?src-supplier=Future+Electronics; ComponentLink13URL: https://datasheet.octopart.com:443/CRCW040210R0FKEDHP-Vishay-datasheet-12518686.pdf?src-supplier=Future+Electronics; ComponentLink13Description: https://datasheet.octopart.com:443/CRCW040210R0FKEDHP-Vishay-datasheet-12518686.pdf?src-supplier=Future+Electronics; ComponentLink14URL: https://datasheet.octopart.com:443/CRCW040210R0FKEDHP-Vishay-datasheet-12509906.pdf?src-supplier=Future+Electronics; ComponentLink14Description: https://datasheet.octopart.com:443/CRCW040210R0FKEDHP-Vishay-datasheet-12509906.pdf?src-supplier=Future+Electronics; ComponentLink15URL: https://datasheet.octopart.com:443/CRCW040210R0FKEDHP-Vishay-datasheet-10669844.pdf?src-supplier=Future+Electronics; ComponentLink15Description: https://datasheet.octopart.com:443/CRCW040210R0FKEDHP-Vishay-datasheet-10669844.pdf?src-supplier=Future+Electronics; ComponentLink16URL: https://datasheet.octopart.com:443/CRCW040210R0FKEDHP-Vishay-datasheet-8703221.pdf?src-supplier=Future+Electronics; ComponentLink16Description: https://datasheet.octopart.com:443/CRCW040210R0FKEDHP-Vishay-datasheet-8703221.pdf?src-supplier=Future+Electronics; ComponentLink17URL: https://datasheet.octopart.com:443/CRCW040210R0FKEDHP-Vishay-Dale-datasheet-47688881.pdf?src-supplier=RS+(Formerly+Allied+Electronics); ComponentLink17Description: https://datasheet.octopart.com:443/CRCW040210R0FKEDHP-Vishay-Dale-datasheet-47688881.pdf?src-supplier=RS+(Formerly+Allied+Electronics); ComponentLink18URL: https://datasheet.octopart.com:443/CRCW040210R0FKEDHP-Vishay-datasheet-17834126.pdf?src-supplier=TME; ComponentLink18Description: https://datasheet.octopart.com:443/CRCW040210R0FKEDHP-Vishay-datasheet-17834126.pdf?src-supplier=TME; ComponentLink19URL: https://datasheet.octopart.com:443/CRCW040210R0FKEDHP-Vishay-datasheet-8359436.pdf?src-supplier=Newark; ComponentLink19Description: https://datasheet.octopart.com:443/CRCW040210R0FKEDHP-Vishay-datasheet-8359436.pdf?src-supplier=Newark; ComponentLink20URL: http://sigma.octopart.com:80/rohs_statement/Vishay-company-15.pdf?src-supplier=Compliance+Statements; ComponentLink20Description: http://sigma.octopart.com:80/rohs_statement/Vishay-company-15.pdf?src-supplier=Compliance+Statements
footprint RES 0402_1005 (Chip Resistor, 2-Leads, Body 1.0x0.5mm, IPC Medium Density)
pins: 1, 2

## CRCW0402100KFKEDC
designator R?, comment 100K
Res Thick Film 0402 100K Ohm 1% 0.063W(1/16W) ±100ppm/C Pad SMD T/R; Manufacturer: Vishay; MPN: CRCW0402100KFKEDC; Power Dissipation: 63mW; Value: 100kΩ; Temperature Coefficient: 100ppm/°C; Voltage Rating: 50V; Supplier: DigiKey; Supplier Part Number: 541-3960-1-ND; RoHS: Compliant; Category: Chip SMD Resistors; Stock: 265190; Pricing: 1=0.1, 10=0.028, 25=0.0208, 50=0.0168, 100=0.0138, 250=0.01072, 500=0.009, 1000=0.00766, 5000=0.00554 (USD); Case/Package: 0402; China RoHS: Non-Compliant; Composition: Thick Film; Contact Plating: Tin; Height: 300µm; Lead Free: Lead Free; Length: 1mm; Lifecycle Status: Production; Max Operating Temperature: 155°C; Min Operating Temperature: -55°C; Mounting Technology: Surface Mount; Number of Terminals: 2; Power Rating: 63mW; REACH SVHC: Yes; Schedule B: 8533210045, 8533210045|8533210045, 8533210045|8533210045|8533210045, 8533210045|8533210045|8533210045|8533210045; Termination: Wraparound; Tolerance: 1%; Width: 500µm; Working Voltage: 50V; ComponentLink1URL: https://datasheet.octopart.com:443/CRCW0402100KFKEDC-Vishay-datasheet-102570912.pdf?src-supplier=Upverter; ComponentLink1Description: https://datasheet.octopart.com:443/CRCW0402100KFKEDC-Vishay-datasheet-102570912.pdf?src-supplier=Upverter; ComponentLink2URL: https://datasheet.octopart.com:443/CRCW0402100KFKEDC-Vishay-datasheet-175423585.pdf?src-supplier=IHS; ComponentLink2Description: https://datasheet.octopart.com:443/CRCW0402100KFKEDC-Vishay-datasheet-175423585.pdf?src-supplier=IHS; ComponentLink3URL: https://datasheet.octopart.com:443/CRCW0402100KFKEDC-Vishay-datasheet-100063072.pdf?src-supplier=Future+Electronics; ComponentLink3Description: https://datasheet.octopart.com:443/CRCW0402100KFKEDC-Vishay-datasheet-100063072.pdf?src-supplier=Future+Electronics; ComponentLink4URL: https://datasheet.octopart.com:443/CRCW0402100KFKEDC-Vishay-datasheet-62316122.pdf?src-supplier=Future+Electronics; ComponentLink4Description: https://datasheet.octopart.com:443/CRCW0402100KFKEDC-Vishay-datasheet-62316122.pdf?src-supplier=Future+Electronics; ComponentLink5URL: http://sigma.octopart.com:80/rohs_statement/Vishay-company-15.pdf?src-supplier=Compliance+Statements; ComponentLink5Description: http://sigma.octopart.com:80/rohs_statement/Vishay-company-15.pdf?src-supplier=Compliance+Statements
footprint RES 0402_1005 (Chip Resistor, 2-Leads, Body 1.0x0.5mm, IPC Medium Density)
pins: 1, 2

## CRCW0402100RFKEDHP
designator R?, comment 100R
Res Thick Film 0402 100 Ohm 1% 0.2W ±100ppm/°C Molded SMD SMD Paper T/R; Manufacturer: Vishay; MPN: CRCW0402100RFKEDHP; Manufacturer Package Identifier: CRCW0402-HPe3; Power Dissipation: 200mW; Value: 100Ω; Voltage Rating: 50V; Supplier: DigiKey; Supplier Part Number: 541-100YCT-ND; RoHS: Compliant; Category: Chip SMD Resistors; Stock: 523985; Pricing: 1=0.11, 10=0.054, 25=0.0412, 50=0.034, 100=0.0286, 250=0.02312, 500=0.02002, 1000=0.01755, 5000=0.01363 (USD); Case/Package: 0402; Case Code (Imperial): 0402; Case Code (Metric): 1005; China RoHS: Non-Compliant; Composition: Thick Film; Contact Plating: Tin; Depth: 500µm; Height: 300µm; Lead Free: Lead Free; Length: 1mm; Lifecycle Status: Production; Max Operating Temperature: 155°C; Min Operating Temperature: -55°C; Mounting Technology: Surface Mount; Number of Terminals: 2; Packaging: Cut Tape; Power Rating: 200mW; Radiation Hardening: No; REACH SVHC: Yes; Schedule B: 8533210045, 8533210045|8533210045|8533210045|8533210045|8533210045|8533210045|8533210045, 8533210045|8533210045|8533210045|8533210045|8533210045|8533210045|8533210045|8533210045, 8533210045|8533210045|8533210045|8533210045|8533210045|8533210045|8533210045|8533210045|8533210045; Temperature Coefficient: 100ppm/°C; Termination: SMD/SMT; Tolerance: 1%; Voltage Rating (DC): 50V; Weight: 652.039032µg; Width: 500µm; Working Voltage: 50V; ComponentLink1URL: https://datasheet.octopart.com/CRCW0402100RFKEDHP-Vishay-datasheet-83567917.pdf; ComponentLink1Description: https://datasheet.octopart.com/CRCW0402100RFKEDHP-Vishay-datasheet-83567917.pdf; ComponentLink2URL: https://datasheet.octopart.com/D-CRCW-e3-Standard-Thick-Film-Chip-Resistors-Vishay-datasheet-family-64.pdf; ComponentLink2Description: https://datasheet.octopart.com/D-CRCW-e3-Standard-Thick-Film-Chip-Resistors-Vishay-datasheet-family-64.pdf; ComponentLink3URL: https://datasheet.octopart.com:443/CRCW0402100RFKEDHP-Vishay-datasheet-87136057.pdf?src-supplier=element14+APAC; ComponentLink3Description: https://datasheet.octopart.com:443/CRCW0402100RFKEDHP-Vishay-datasheet-87136057.pdf?src-supplier=element14+APAC; ComponentLink4URL: https://datasheet.octopart.com:443/CRCW0402100RFKEDHP-Vishay-datasheet-78776210.pdf?src-supplier=element14+APAC; ComponentLink4Description: https://datasheet.octopart.com:443/CRCW0402100RFKEDHP-Vishay-datasheet-78776210.pdf?src-supplier=element14+APAC; ComponentLink5URL: https://datasheet.octopart.com:443/CRCW0402100RFKEDHP-Vishay-datasheet-62317933.pdf?src-supplier=element14+APAC; ComponentLink5Description: https://datasheet.octopart.com:443/CRCW0402100RFKEDHP-Vishay-datasheet-62317933.pdf?src-supplier=element14+APAC; ComponentLink6URL: https://datasheet.octopart.com:443/CRCW0402100RFKEDHP-Vishay-datasheet-37143532.pdf?src-supplier=element14+APAC; ComponentLink6Description: https://datasheet.octopart.com:443/CRCW0402100RFKEDHP-Vishay-datasheet-37143532.pdf?src-supplier=element14+APAC; ComponentLink7URL: https://datasheet.octopart.com:443/CRCW0402100RFKEDHP-Vishay-datasheet-66581887.pdf?src-supplier=element14+APAC; ComponentLink7Description: https://datasheet.octopart.com:443/CRCW0402100RFKEDHP-Vishay-datasheet-66581887.pdf?src-supplier=element14+APAC; ComponentLink8URL: https://datasheet.octopart.com:443/CRCW0402100RFKEDHP-Vishay-datasheet-13148866.pdf?src-supplier=_legacy+Avnet; ComponentLink8Description: https://datasheet.octopart.com:443/CRCW0402100RFKEDHP-Vishay-datasheet-13148866.pdf?src-supplier=_legacy+Avnet; ComponentLink9URL: https://datasheet.octopart.com:443/CRCW0402100RFKEDHP-Vishay-datasheet-13131392.pdf?src-supplier=_legacy+Avnet; ComponentLink9Description: https://datasheet.octopart.com:443/CRCW0402100RFKEDHP-Vishay-datasheet-13131392.pdf?src-supplier=_legacy+Avnet; ComponentLink10URL: https://datasheet.octopart.com:443/CRCW0402100RFKEDHP-Vishay-datasheet-12593106.pdf?src-supplier=_legacy+Avnet; ComponentLink10Description: https://datasheet.octopart.com:443/CRCW0402100RFKEDHP-Vishay-datasheet-12593106.pdf?src-supplier=_legacy+Avnet; ComponentLink11URL: https://datasheet.octopart.com:443/CRCW0402100RFKEDHP-Vishay-datasheet-12544674.pdf?src-supplier=_legacy+Avnet; ComponentLink11Description: https://datasheet.octopart.com:443/CRCW0402100RFKEDHP-Vishay-datasheet-12544674.pdf?src-supplier=_legacy+Avnet; ComponentLink12URL: https://datasheet.octopart.com:443/CRCW0402100RFKEDHP-Vishay-datasheet-12531795.pdf?src-supplier=_legacy+Avnet; ComponentLink12Description: https://datasheet.octopart.com:443/CRCW0402100RFKEDHP-Vishay-datasheet-12531795.pdf?src-supplier=_legacy+Avnet; ComponentLink13URL: https://datasheet.octopart.com:443/CRCW0402100RFKEDHP-Vishay-datasheet-12518686.pdf?src-supplier=_legacy+Avnet; ComponentLink13Description: https://datasheet.octopart.com:443/CRCW0402100RFKEDHP-Vishay-datasheet-12518686.pdf?src-supplier=_legacy+Avnet; ComponentLink14URL: https://datasheet.octopart.com:443/CRCW0402100RFKEDHP-Vishay-datasheet-12509906.pdf?src-supplier=_legacy+Avnet; ComponentLink14Description: https://datasheet.octopart.com:443/CRCW0402100RFKEDHP-Vishay-datasheet-12509906.pdf?src-supplier=_legacy+Avnet; ComponentLink15URL: https://datasheet.octopart.com:443/CRCW0402100RFKEDHP-Vishay-datasheet-10669844.pdf?src-supplier=_legacy+Avnet; ComponentLink15Description: https://datasheet.octopart.com:443/CRCW0402100RFKEDHP-Vishay-datasheet-10669844.pdf?src-supplier=_legacy+Avnet; ComponentLink16URL: https://datasheet.octopart.com:443/CRCW0402100RFKEDHP-Vishay-datasheet-8703221.pdf?src-supplier=_legacy+Avnet; ComponentLink16Description: https://datasheet.octopart.com:443/CRCW0402100RFKEDHP-Vishay-datasheet-8703221.pdf?src-supplier=_legacy+Avnet; ComponentLink17URL: https://datasheet.octopart.com:443/CRCW0402100RFKEDHP-Vishay-datasheet-62316122.pdf?src-supplier=Future+Electronics; ComponentLink17Description: https://datasheet.octopart.com:443/CRCW0402100RFKEDHP-Vishay-datasheet-62316122.pdf?src-supplier=Future+Electronics; ComponentLink18URL: https://datasheet.octopart.com:443/CRCW0402100RFKEDHP-Vishay-Dale-datasheet-47688881.pdf?src-supplier=RS+(Formerly+Allied+Electronics); ComponentLink18Description: https://datasheet.octopart.com:443/CRCW0402100RFKEDHP-Vishay-Dale-datasheet-47688881.pdf?src-supplier=RS+(Formerly+Allied+Electronics); ComponentLink19URL: https://datasheet.octopart.com:443/CRCW0402100RFKEDHP-Vishay-datasheet-8359436.pdf?src-supplier=Newark; ComponentLink19Description: https://datasheet.octopart.com:443/CRCW0402100RFKEDHP-Vishay-datasheet-8359436.pdf?src-supplier=Newark; ComponentLink20URL: http://sigma.octopart.com:80/rohs_certificate/D-CRCW-e3-Standard-Thick-Film-Chip-Resistors-Vishay-family-102.pdf?src-supplier=Compliance+Statements; ComponentLink20Description: http://sigma.octopart.com:80/rohs_certificate/D-CRCW-e3-Standard-Thick-Film-Chip-Resistors-Vishay-family-102.pdf?src-supplier=Compliance+Statements
footprint RES 0402_1005 (Chip Resistor, 2-Leads, Body 1.0x0.5mm, IPC Medium Density)
pins: 1, 2

## DMC2990UDJ-7
designator Q?
Complem. Pair Enhancement MOSFET SOT-963; Manufacturer_Name: Diodes Incorporated; Geometry.Height: 0.5mm; Mouser Part Number: 621-DMC2990UDJ-7; Mouser Price/Stock: https://www.mouser.co.uk/ProductDetail/Diodes-Incorporated/DMC2990UDJ-7?qs=T%2FOtf55vL7d00qRGlt4Fcw%3D%3D; MPN: DMC2990UDJ-7; Datasheet Link: https://www.diodes.com//assets/Datasheets/DMC2990UDJ.pdf
footprint SOTFL35P100X50-6N
pins: 1 S1, 2 G1, 3 D2, 4 S2, 5 G2, 6 D1